# Altium footprint library HDF15H.PcbLib: 1 footprints
Each footprint in its own frame and in the unit in brackets; x right, y up, seen from the top. Pads: shape width x height; smd on the part's side, far side on the other; paste and mask are expansions set on the pad; w line width, h text height; cw(c..) or ccw(c..) is an arc to the next point about the centre after c.
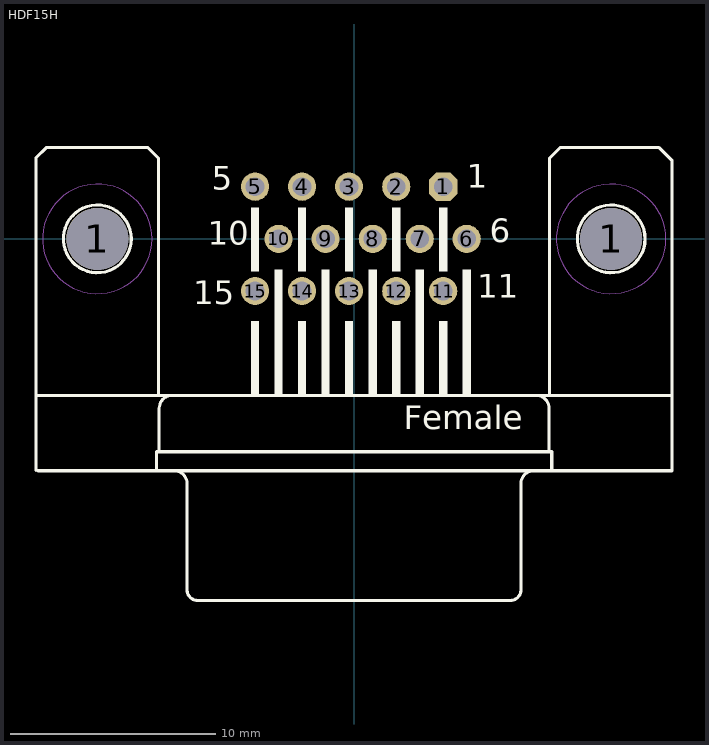
[diagram p0: the footprint, top view; thin cyan lines are the x and y axes]

## HDF15H [mil]
pads (17):
  round 119 hole 119: 1(-492.13,0) 1(493,0)
  oct 54x54 hole 36: 1(171,100)
  round 54 hole 36: 2(81,100) 3(-9.57,100) 4(-99.57,100) 5(-189.57,100) 6(216,0) 7(126,0) 8(36,0) 9(-54.57,0) 10(-144.57,0) 11(171,-100) 12(81,-100) 13(-9.57,-100) 14(-99.57,-100) 15(-189.57,-100)
Top Overlay:
  circle w6: c493,0 r65
  circle w6: c-492.13,0 r65
  rectangle: 28,-299.21 44,-59.06
  rectangle: -62.44,-299.21 -46.69,-59.06
  rectangle: -152.44,-299.21 -136.69,-59.06
  rectangle: 118,-299.21 134,-59.06
  rectangle: 208,-299.21 224,-59.06
  rectangle: -17.44,-299.21 -1.69,-157.48
  rectangle: -107.44,-299.21 -91.69,-157.48
  rectangle: -197.44,-299.21 -181.69,-157.48
  rectangle: 73,-299.21 89,-157.48
  rectangle: 163,-299.21 179,-157.48
  rectangle: -197.44,-62.99 -181.69,60
  rectangle: -107.44,-62.99 -91.69,60
  rectangle: -17.44,-62.99 -1.69,60
  rectangle: 73,-62.99 89,60
  rectangle: 163,-62.99 179,60
  lines w6: -610,-443.94 -610,-300 ; -605.51,-444.65 610,-444.65 ; -378.5,-443.94 -378.5,-408.19 -373.5,-408.19 ; -375,-300 -375,155 -395,175 -590,175 -610,155 -610,-300 ; -348.5,-300 ccw(c-348.5,-325) -373.5,-325 -373.5,-408.19 ; -345,-444.25 cw(c-345,-469.25) -320,-469.25 -320,-673.19 ccw(c-300,-673.19) -300,-693.19 300,-693.19 ccw(c300,-673.19) 320,-673.19 320,-469.25 cw(c345,-469.25) 345,-444.25 ; 349,-300 cw(c349,-325) 374,-325 374,-408.19 ; 375,-300 375,155 395,175 585,175 610,150 610,-443.94 ; 379,-443.94 379,-408.19 374,-408.19 ; 610,-300 -610,-300 ; -373.5,-408.19 374,-408.19
  text "1" at 216,83 h77.5
  text "5" at -272.24,79 h77.5
  text "6" at 260,-22.24 h77.5
  text "10" at -280.12,-26.18 h77.5
  text "15" at -307.87,-140.35 h77.5
  text "11" at 236,-128.54 h77.5
  text "Female" at 95,-380 h77.5
Mechanical 9:
  circle w0: c493,0 r105
  circle w0: c-492.13,0 r105
Mechanical 10:
  circle w0: c493,0 r105
  circle w0: c-492.13,0 r105
Mechanical 16:
  text "HDF15 CONEC" at -238.74,-579.41 h77.5